# EAGLE library part AU-Y1007-R (library con-assmann)
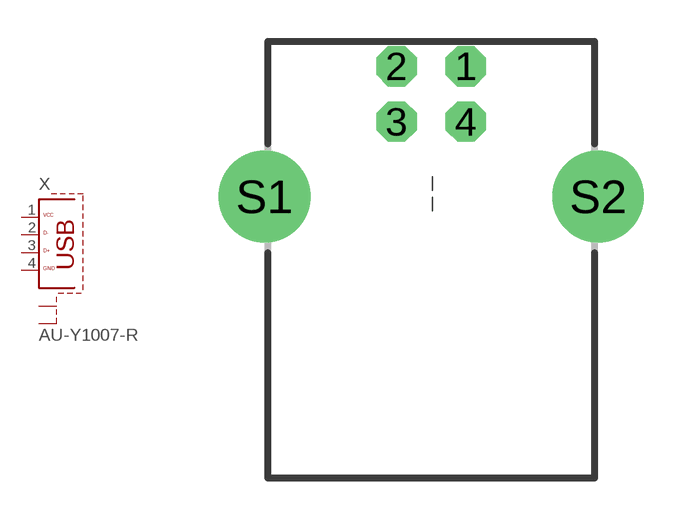
[diagram p12: symbol with the pads of USB-TYPEB-RA; footprint USB-TYPEB-RA]

Designator prefix X

## AU-Y1007-R  [USB-TYPEB-RA]
1  1  pas
2  2  pas
3  3  pas
4  4  pas
S1  S1  pas
S2  S2  pas

## Footprint USB-TYPEB-RA (pad centres in mm)
drill 0.95 octagon: 1 1.25,4.71; 2 -1.25,4.71; 3 -1.25,2.71; 4 1.25,2.71
drill 2.3 pad 2.9 round: S1 -6.02,0; S2 6.02,0